# Altium footprint library SMBJ5P0A-TR.PcbLib: 3 footprints
Each footprint in its own frame and in the unit in brackets; x right, y up, seen from the top. Pads: shape width x height; smd on the part's side, far side on the other; paste and mask are expansions set on the pad; w line width, h text height; cw(c..) or ccw(c..) is an arc to the next point about the centre after c.
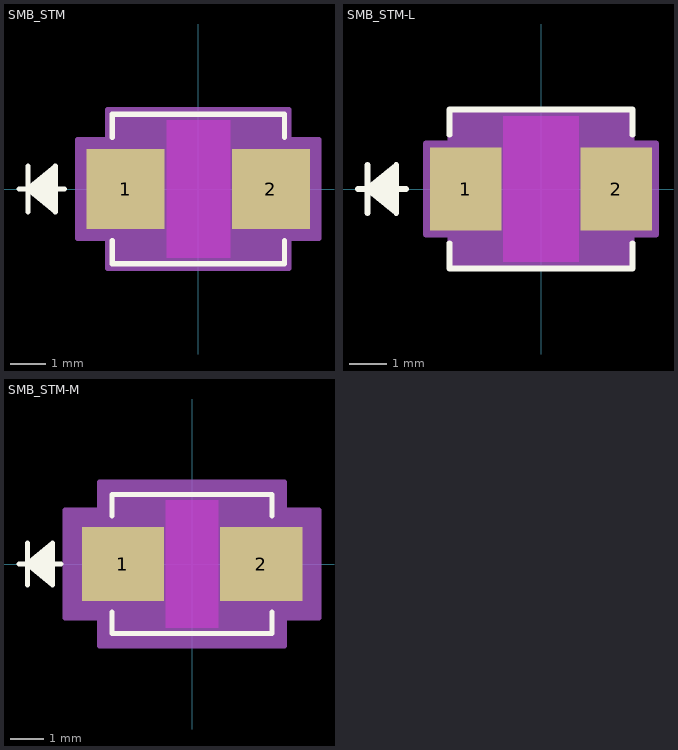
[diagram p0: the footprints below, top view; thin cyan lines are the x and y axes]

## SMB_STM [mil]
pads (2):
  rect 86.56x88.97 smd paste+0 mask+0: 1(-80.5,0) 2(80.5,0)
Top Layer keep-out:
  region: -35.22,-76 -35.22,76 35.22,76 35.22,-76
Top Overlay:
  lines w6: -198.78,0 -148.78,0 ; -188.78,-25 -188.78,25 ; -158.78,-20 -188.78,0 ; -158.78,-15 -188.78,0 ; -158.78,-10 -188.78,0 ; -158.78,-5 -188.78,0 ; -158.78,5 -188.78,0 ; -158.78,10 -188.78,0 ; -158.78,15 -188.78,0 ; -158.78,20 -188.78,0 ; -95.5,-57.58 -95.5,-83 95.5,-83 95.5,-57.58 ; -95.5,57.58 -95.5,83 95.5,83 95.5,57.58 ; -188.78,0 -158.78,25 -158.78,-25 -188.78,0
  text ".Designator" at -137.5,-25 h50
Keep-Out Layer:
  region: -35.22,-76 -35.22,76 35.22,76 35.22,-76
Mechanical 13:
  lines w1: -198.78,0 -148.78,0 ; -188.78,-25 -188.78,25 ; -158.78,-20 -188.78,0 ; -158.78,-15 -188.78,0 ; -158.78,-10 -188.78,0 ; -158.78,-5 -188.78,0 ; -158.78,5 -188.78,0 ; -158.78,10 -188.78,0 ; -158.78,15 -188.78,0 ; -158.78,20 -188.78,0 ; -90.5,-39 -51.5,-78 ; -90.5,39 -51.5,78 ; -188.78,0 -158.78,25 -158.78,-25 -188.78,0 ; -110,-43.5 -110,43.5 -90.5,43.5 -90.5,-43.5 -110,-43.5 ; -90.5,-78 90.5,-78 90.5,78 -90.5,78 -90.5,-78 ; 90.5,-43.5 90.5,43.5 110,43.5 110,-43.5 90.5,-43.5
  text ".Designator" at -137.5,-25 h50
Mechanical 15:
  region: -100.5,-54.48 -133.78,-54.48 -133.78,54.48 -100.5,54.48 -100.5,88 100.5,88 100.5,54.48 133.78,54.48 133.78,-54.48 100.5,-54.48 100.5,-88 -100.5,-88
  lines w6: -133.78,-54.48 -133.78,54.48 -100.5,54.48 -100.5,88 100.5,88 100.5,54.48 133.78,54.48 133.78,-54.48 100.5,-54.48 100.5,-88 -100.5,-88 -100.5,-54.48 -133.78,-54.48
3D body "SMB_STM.step": height 104.09, standoff 0.07, extent -110,-77.99 110,77.99

## SMB_STM-L [mil]
pads (2):
  rect 74.75x87 smd paste+0 mask+0: 1(-78.53,0) 2(78.53,0)
Top Layer keep-out:
  region: -39.16,-76 -39.16,76 39.16,76 39.16,-76
Top Overlay:
  lines w6: -190.91,0 -140.91,0 ; -180.91,-25 -180.91,25 ; -150.91,-20 -180.91,0 ; -150.91,-15 -180.91,0 ; -150.91,-10 -180.91,0 ; -150.91,-5 -180.91,0 ; -150.91,5 -180.91,0 ; -150.91,10 -180.91,0 ; -150.91,15 -180.91,0 ; -150.91,20 -180.91,0 ; -95.5,-56.6 -95.5,-83 95.5,-83 95.5,-56.6 ; -95.5,56.6 -95.5,83 95.5,83 95.5,56.6 ; -180.91,0 -150.91,25 -150.91,-25 -180.91,0
  text ".Designator" at -137.5,-25 h50
Keep-Out Layer:
  region: -39.16,-76 -39.16,76 39.16,76 39.16,-76
Mechanical 13:
  lines w1: -190.91,0 -140.91,0 ; -180.91,-25 -180.91,25 ; -150.91,-20 -180.91,0 ; -150.91,-15 -180.91,0 ; -150.91,-10 -180.91,0 ; -150.91,-5 -180.91,0 ; -150.91,5 -180.91,0 ; -150.91,10 -180.91,0 ; -150.91,15 -180.91,0 ; -150.91,20 -180.91,0 ; -90.5,-39 -51.5,-78 ; -90.5,39 -51.5,78 ; -180.91,0 -150.91,25 -150.91,-25 -180.91,0 ; -110,-43.5 -110,43.5 -90.5,43.5 -90.5,-43.5 -110,-43.5 ; -90.5,-78 90.5,-78 90.5,78 -90.5,78 -90.5,-78 ; 90.5,-43.5 90.5,43.5 110,43.5 110,-43.5 90.5,-43.5
  text ".Designator" at -137.5,-25 h50
Mechanical 15:
  region: -94.5,-47.5 -119.91,-47.5 -119.91,47.5 -94.5,47.5 -94.5,82 94.5,82 94.5,47.5 119.91,47.5 119.91,-47.5 94.5,-47.5 94.5,-82 -94.5,-82
  lines w6: -119.91,-47.5 -119.91,47.5 -94.5,47.5 -94.5,82 94.5,82 94.5,47.5 119.91,47.5 119.91,-47.5 94.5,-47.5 94.5,-82 -94.5,-82 -94.5,-47.5 -119.91,-47.5
3D body "SMB_STM.step": height 104.09, standoff 0.07, extent -110,-77.99 110,77.99

## SMB_STM-M [mil]
pads (2):
  rect 98.37x88.97 smd paste+0 mask+0: 1(-82.47,0) 2(82.47,0)
Top Layer keep-out:
  region: -31.28,-76 -31.28,76 31.28,76 31.28,-76
Top Overlay:
  lines w6: -206.65,0 -156.65,0 ; -196.65,-25 -196.65,25 ; -166.65,-20 -196.65,0 ; -166.65,-15 -196.65,0 ; -166.65,-10 -196.65,0 ; -166.65,-5 -196.65,0 ; -166.65,5 -196.65,0 ; -166.65,10 -196.65,0 ; -166.65,15 -196.65,0 ; -166.65,20 -196.65,0 ; -95.5,-57.58 -95.5,-83 95.5,-83 95.5,-57.58 ; -95.5,57.58 -95.5,83 95.5,83 95.5,57.58 ; -196.65,0 -166.65,25 -166.65,-25 -196.65,0
  text ".Designator" at -137.5,-25 h50
Keep-Out Layer:
  region: -31.28,-76 -31.28,76 31.28,76 31.28,-76
Mechanical 13:
  lines w1: -206.65,0 -156.65,0 ; -196.65,-25 -196.65,25 ; -166.65,-20 -196.65,0 ; -166.65,-15 -196.65,0 ; -166.65,-10 -196.65,0 ; -166.65,-5 -196.65,0 ; -166.65,5 -196.65,0 ; -166.65,10 -196.65,0 ; -166.65,15 -196.65,0 ; -166.65,20 -196.65,0 ; -90.5,-39 -51.5,-78 ; -90.5,39 -51.5,78 ; -196.65,0 -166.65,25 -166.65,-25 -196.65,0 ; -110,-43.5 -110,43.5 -90.5,43.5 -90.5,-43.5 -110,-43.5 ; -90.5,-78 90.5,-78 90.5,78 -90.5,78 -90.5,-78 ; 90.5,-43.5 90.5,43.5 110,43.5 110,-43.5 90.5,-43.5
  text ".Designator" at -137.5,-25 h50
Mechanical 15:
  region: -110.5,-64.48 -151.65,-64.48 -151.65,64.48 -110.5,64.48 -110.5,98 110.5,98 110.5,64.48 151.65,64.48 151.65,-64.48 110.5,-64.48 110.5,-98 -110.5,-98
  lines w6: -151.65,-64.48 -151.65,64.48 -110.5,64.48 -110.5,98 110.5,98 110.5,64.48 151.65,64.48 151.65,-64.48 110.5,-64.48 110.5,-98 -110.5,-98 -110.5,-64.48 -151.65,-64.48
3D body "SMB_STM.step": height 104.09, standoff 0.07, extent -110,-77.99 110,77.99